# Altium schematic symbol library SMD Capacitors Other.SchLib: 6 symbols
Pins are listed as number, name and electrical type; pins without a type are passive.

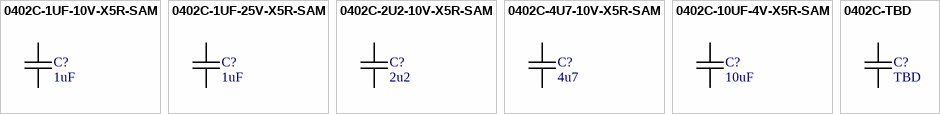
[diagram p0: symbols 0402C-1UF-10V-X5R-SAM to 0402C-TBD]

## 0402C-1UF-10V-X5R-SAM
designator C?, comment 1uF
CAPACITOR 0402 CERAMIC; Reel: C18
footprint 0402C-GENERIC
pins: 1, 2

## 0402C-1UF-25V-X5R-SAM
designator C?, comment 1uF
CAPACITOR 0402 CERAMIC; Reel: C49
footprint 0402C-GENERIC
pins: 1, 2

## 0402C-2U2-10V-X5R-SAM
designator C?, comment 2u2
CAPACITOR 0402 CERAMIC; Reel: C16
footprint 0402C-GENERIC
pins: 1, 2

## 0402C-4U7-10V-X5R-SAM
designator C?, comment 4u7
CAPACITOR 0402 CERAMIC; Reel: C48
footprint 0402C-GENERIC
pins: 1, 2

## 0402C-10UF-4V-X5R-SAM
designator C?, comment 10uF
CAPACITOR 0402 CERAMIC; Reel: C47
footprint 0402C-GENERIC
pins: 1, 2

## 0402C-TBD
designator C?, comment TBD
CAPACITOR 0402 CERAMIC
footprint 0402C-TBD (Footprint not found)
pins: 1, 2